# EAGLE library part BBC_15P (library bbc_micro)
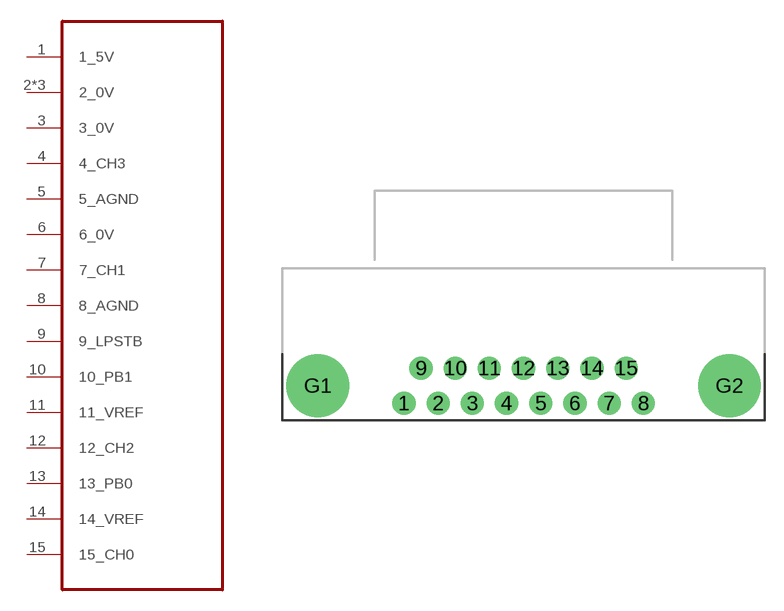
[diagram p1: symbol with the pads of DA15; footprint DA15]

Designator prefix -

## BBC_15P  [DA15]
1  1_5V
2  2_0V
3  3_0V
4  4_CH3
5  5_AGND
6  6_0V
7  7_CH1
8  8_AGND
9  9_LPSTB
10  10_PB1
11  11_VREF
12  12_CH2
13  13_PB0
14  14_VREF
15  15_CH0
G1  2_0V
G2  2_0V

## Footprint DA15 (pad centres in mm)
9 Pin Serial Connector - Male PCB Mount Right Angle 0.318" style. Specifications: Pin count:11 Datasheet referenced for footprint <http://www.4uconnector.com/online/object/4udrawing/15944.pdf> Example device(s): DB9
drill 1.016 pad 1.88: 1 -9.69,-1.42; 2 -6.92,-1.42; 3 -4.15,-1.42; 4 -1.38,-1.42; 5 1.39,-1.42; 6 4.16,-1.42; 7 6.93,-1.42; 8 9.7,-1.42; 9 -8.3,1.42; 10 -5.53,1.42; 11 -2.77,1.42; 12 0,1.42; 13 2.77,1.42; 14 5.54,1.42; 15 8.31,1.42
drill 3.302 pad 5.08: G1 -16.66,0; G2 16.67,0